# Altium schematic symbol library SMF5P0A.SchLib: 1 symbol
Pins are listed as number, name and electrical type; pins without a type are passive.

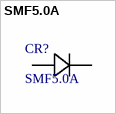
[diagram p0: symbol SMF5.0A]

## SMF5.0A
designator CR?
Description; Manufacturer_Name: Littelfuse Inc; Copyright: Copyright (C) 2025 Ultra Librarian. All rights reserved.; Manufacturer_Part_Number: SMF5.0A
footprint SMFSeries_LTF
pins: 1, 2